# Altium footprint library 2020-07-05_11-45-29.PcbLib: 1 footprints
Each footprint in its own frame and in the unit in brackets; x right, y up, seen from the top. Pads: shape width x height; smd on the part's side, far side on the other; paste and mask are expansions set on the pad; w line width, h text height; cw(c..) or ccw(c..) is an arc to the next point about the centre after c.
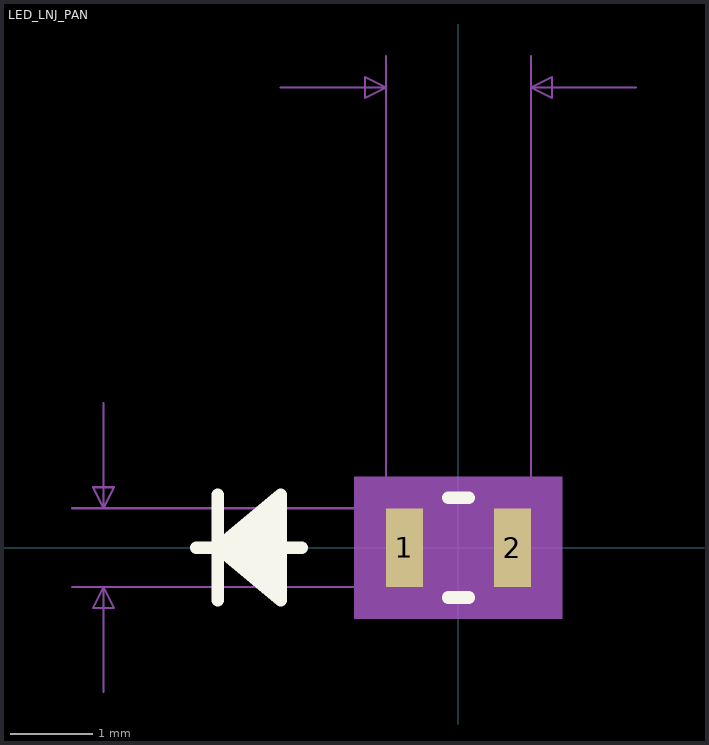
[diagram p0: the footprint, top view; thin cyan lines are the x and y axes]

## LED_LNJ_PAN [mm]
pads (2):
  rect 0.445x0.95 smd paste+0 mask+0: 1(-0.653,0) 2(0.653,0)
Top Overlay:
  lines w0.152: -3.161,0 -1.891,0 ; -2.907,-0.635 -2.907,0.635 ; -2.145,-0.508 -2.907,0 ; -2.145,-0.381 -2.907,0 ; -2.145,-0.254 -2.907,0 ; -2.145,-0.127 -2.907,0 ; -2.145,0.127 -2.907,0 ; -2.145,0.254 -2.907,0 ; -2.145,0.381 -2.907,0 ; -2.145,0.508 -2.907,0 ; -0.122,-0.602 0.122,-0.602 ; -0.122,0.602 0.122,0.602 ; -2.907,0 -2.145,0.635 -2.145,-0.635 -2.907,0
Mechanical 5:
  region: 1.256,-0.856 -1.256,-0.856 -1.256,0.856 1.256,0.856
Mechanical 7:
  lines w0.025: -4.666,-0.475 1.129,-0.475 ; -4.666,0.475 1.129,0.475 ; -4.285,-1.745 -4.285,-0.475 ; -4.285,1.745 -4.285,0.475 ; -2.145,5.555 -0.875,5.555 ; -0.875,0.729 -0.875,5.936 ; 0.875,0.729 0.875,5.936 ; 2.145,5.555 0.875,5.555 ; -4.285,-0.475 -4.412,-0.729 -4.158,-0.729 -4.285,-0.475 ; -4.285,0.475 -4.412,0.729 -4.158,0.729 -4.285,0.475 ; -0.875,5.555 -1.129,5.682 -1.129,5.428 -0.875,5.555 ; 0.875,5.555 1.129,5.682 1.129,5.428 0.875,5.555
  text "Default Pad Style: RX17p52Y37p4D0T" at -10.795,-5.809 h1.27
  text "Alt 1 Pad Style: OX60Y90D30P" at -8.89,-7.079 h1.27
  text "Alt 2 Pad Style: EX90Y60D30P" at -8.89,-8.349 h1.27
  text "0.069in/1.75mm" at -2.222,6.063 h0.64
  text "0.037in/0.95mm" at -9.238,-0.318 h0.64
Mechanical 13:
  lines w0.025: -3.161,0 -1.891,0 ; -2.907,-0.635 -2.907,0.635 ; -2.145,-0.508 -2.907,0 ; -2.145,-0.381 -2.907,0 ; -2.145,-0.254 -2.907,0 ; -2.145,-0.127 -2.907,0 ; -2.145,0.127 -2.907,0 ; -2.145,0.254 -2.907,0 ; -2.145,0.381 -2.907,0 ; -2.145,0.508 -2.907,0 ; -2.907,0 -2.145,0.635 -2.145,-0.635 -2.907,0 ; -0.875,-0.475 0.875,-0.475 0.875,0.475 -0.875,0.475 -0.875,-0.475
Mechanical 15:
  region: -1.129,-0.729 -1.129,0.729 1.129,0.729 1.129,-0.729
  lines w0.152: -1.129,-0.729 -1.129,0.729 ; -1.129,-0.729 -1.129,-0.729 ; -1.129,-0.729 -1.129,-0.729 ; -1.129,-0.729 1.129,-0.729 ; -1.129,0.729 -1.129,0.729 ; -1.129,0.729 -1.129,0.729 ; -1.129,0.729 1.129,0.729 ; 1.129,-0.729 1.129,0.729 ; 1.129,-0.729 1.129,-0.729 ; 1.129,-0.729 1.129,-0.729 ; 1.129,0.729 1.129,0.729 ; 1.129,0.729 1.129,0.729
3D body: height 0.25, standoff 0, extent 0,0 0.254,0.254